# EAGLE library part AD7679 (library Jim)
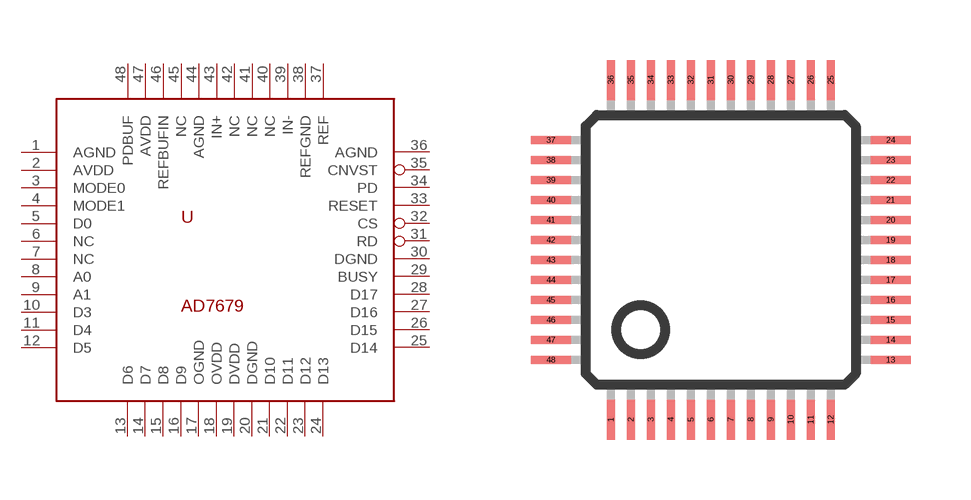
[diagram p0: symbol with the pads of LQFP48; footprint LQFP48]

Designator prefix -

## AD7679  [LQFP48]
1  AGND  pwr
2  AVDD  pwr
3  MODE0  in
4  MODE1  in
5  D0  in
6  NC  nc
7  NC  nc
8  A0  in
9  A1  in
10  D3  in
11  D4  in
12  D5  in
13  D6  in
14  D7  in
15  D8  in
16  D9  in
17  OGND  pwr
18  OVDD  pwr
19  DVDD  pwr
20  DGND  pwr
21  D10  in
22  D11  in
23  D12  in
24  D13  in
25  D14  in
26  D15  in
27  D16  in
28  D17  in
29  BUSY  in
30  DGND  pwr
31  RD  in
32  CS  in
33  RESET  in
34  PD  in
35  CNVST  in
36  AGND  in
37  REF  in
38  REFGND  in
39  IN-  in
40  NC  nc
41  NC  nc
42  NC  nc
43  IN+  in
44  AGND  pwr
45  NC  nc
46  REFBUFIN  in
47  AVDD  pwr
48  PDBUF  in

## Footprint LQFP48 (pad centres in mm)
48-pin plastic LQFP
smd 0.2 x 1: 1 -2.75,-4.25; 2 -2.25,-4.25; 3 -1.75,-4.25; 4 -1.25,-4.25; 5 -0.75,-4.25; 6 -0.25,-4.25; 7 0.25,-4.25; 8 0.75,-4.25; 9 1.25,-4.25; 10 1.75,-4.25; 11 2.25,-4.25; 12 2.75,-4.25; 25 2.75,4.25; 26 2.25,4.25; 27 1.75,4.25; 28 1.25,4.25; 29 0.75,4.25; 30 0.25,4.25; 31 -0.25,4.25; 32 -0.75,4.25; 33 -1.25,4.25; 34 -1.75,4.25; 35 -2.25,4.25; 36 -2.75,4.25
smd 1 x 0.2: 13 4.25,-2.75; 14 4.25,-2.25; 15 4.25,-1.75; 16 4.25,-1.25; 17 4.25,-0.75; 18 4.25,-0.25; 19 4.25,0.25; 20 4.25,0.75; 21 4.25,1.25; 22 4.25,1.75; 23 4.25,2.25; 24 4.25,2.75; 37 -4.25,2.75; 38 -4.25,2.25; 39 -4.25,1.75; 40 -4.25,1.25; 41 -4.25,0.75; 42 -4.25,0.25; 43 -4.25,-0.25; 44 -4.25,-0.75; 45 -4.25,-1.25; 46 -4.25,-1.75; 47 -4.25,-2.25; 48 -4.25,-2.75